# EAGLE library part TPS61070 (library CEDTv76)
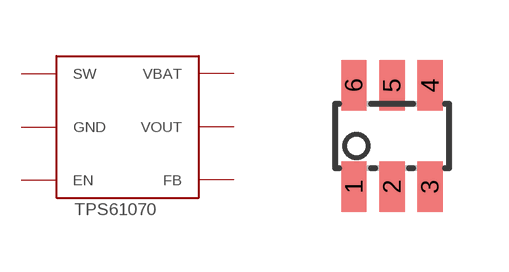
[diagram p6: symbol with the pads of SOT23-6; footprint SOT23-6]

Designator prefix -

## TPS61070  [SOT23-6]
1  SW
2  GND
3  EN
4  FB
5  VOUT
6  VBAT

## Footprint SOT23-6 (pad centres in mm)
Small Outline Transistor
smd 0.635 x 1.27: 1 -0.953,-1.27; 2 0,-1.27; 3 0.953,-1.27; 4 0.953,1.27; 5 0,1.27; 6 -0.953,1.27